# Altium schematic symbol library Microchip Power Management Switching Regulator.SchLib: 304 symbols (part 4 of 8)
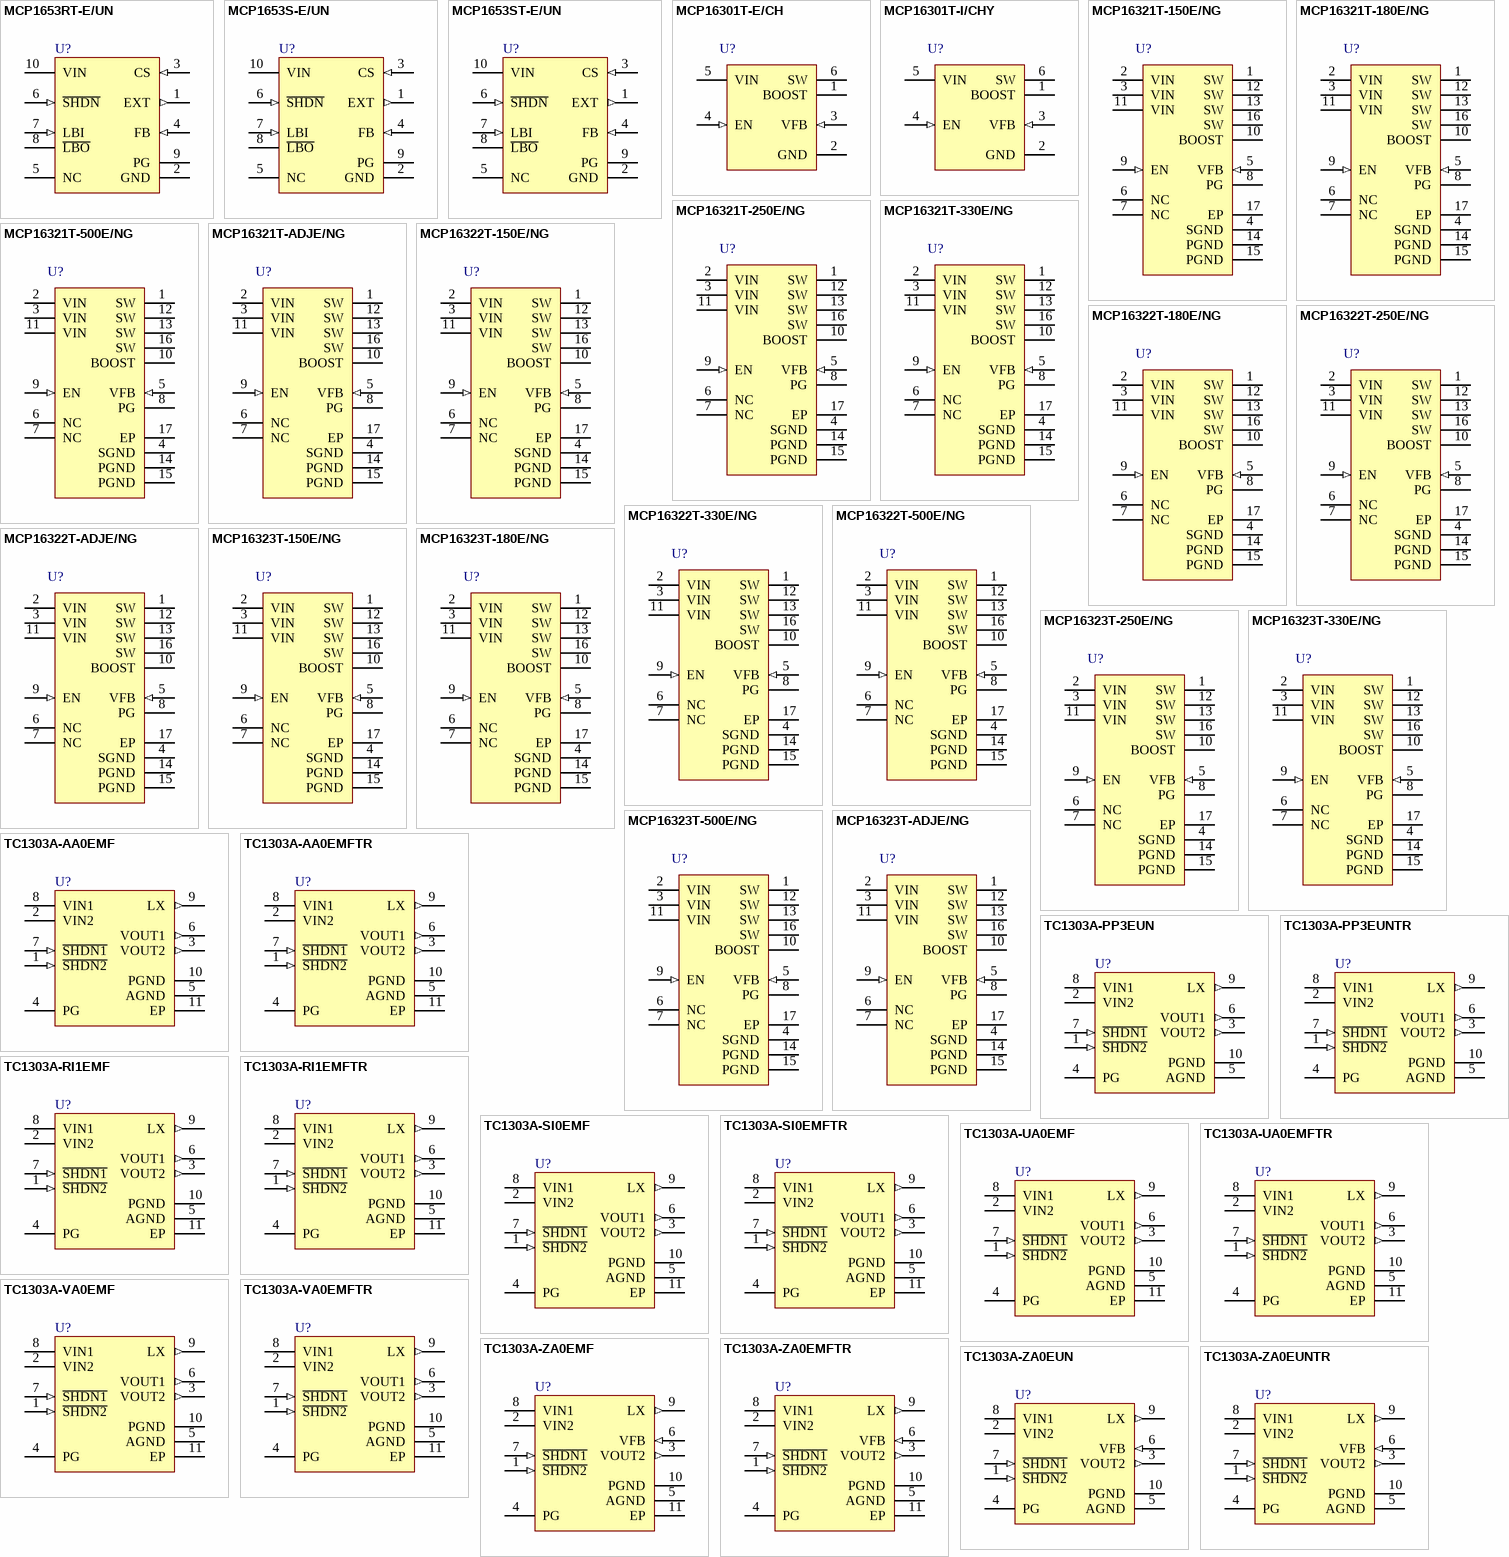
[diagram p10: symbols MCP1653RT-E/UN to TC1303A-ZA0EUNTR]

## MCP16323T-500E/NG
designator U?
High Efficiency Synchronous Buck Regulator with Power Good Indication, Input Voltage 6 to 18 V, Output Voltage 5.0 V, -40 to 125 degC, 16-pin VQFN (NG16), Tape and Reel; Manufacturer: Microchip; PartNumber: MCP16323T-500E/NG; DatasheetVersion: Rev. A; PackageVersion: C04-197A; PackageReference: VQFN-NG16; PackageDescription: 16-Lead Plastic Quad Flat, 3 x 3 mm Body, 0.5 mm Pitch; Supplier 1: Digi-Key; Supplier Part Number 1: MCP16323T-500E/NGTR-ND; Mounting Technology: Surface Mount; ComponentLink1Description: Manufacturer URL; ComponentLink1URL: http://www.microchip.com; ComponentLink2Description: Datasheet; ComponentLink2URL: http://ww1.microchip.com/downloads/en/DeviceDoc/22284A.pdf; ComponentLink3Description: Package Specification; ComponentLink3URL: http://www.microchip.com/stellent/groups/techpub_sg/documents/packagingspec/en012702.pdf; ComponentLink4Description: Product URL; ComponentLink4URL: http://www.microchip.com/MCP16323
footprint MCHP-VQFN-NG16_N (QFN, 16-Leads, Body 3x3mm, Pitch 0.5mm, Thermal Pad 1.675x1.675mm, IPC Medium Density)
footprint MCHP-VQFN-NG16_L (QFN, 16-Leads, Body 3x3mm, Pitch 0.5mm, Thermal Pad 1.675x1.675mm, IPC High Density)
footprint MCHP-VQFN-NG16_M (QFN, 16-Leads, Body 3x3mm, Pitch 0.5mm, Thermal Pad 1.675x1.675mm, IPC Low Density)
pins: 1 SW (power) "Output switch node, connects to the inductor and the bootstrap capacitor", 2 VIN (power) "Input supply voltage pin for power and internal biasing", 3 VIN (power) "Input supply voltage pin for power and internal biasing", 4 SGND (power) "Primary signal ground", 5 VFB (in) "Output voltage feedback pin. Connect VFB to VOUT for fixed version and output resistor divider for adjustable version.", 6 NC "No Connection", 7 NC "No Connection", 8 PG (oc) "Power Good open-drain output, pulled up to a maximum of 6V", 9 EN (in) "Enable input pin. Logic high enables the operation. Internally pulled up, pull EN pin low to disable regulator’s output. Maximum voltage on EN input is 6V.", 10 BOOST (power) "Boost voltage that drives the internal NMOS control switch. A bootstrap capacitor is connected between the BOOST and SW pins.", 11 VIN (power) "Input supply voltage pin for power and internal biasing", 12 SW (power) "Output switch node, connects to the inductor and the bootstrap capacitor", 13 SW (power) "Output switch node, connects to the inductor and the bootstrap capacitor", 14 PGND (power) "GND supply for the internal low-side NMOS/integrated diode", 15 PGND (power) "GND supply for the internal low-side NMOS/integrated diode", 16 SW (power) "Output switch node, connects to the inductor and the bootstrap capacitor", 17 EP (power) "Exposed Thermal Pad (EP); must be connected to GND"

## MCP16323T-ADJE/NG
designator U?
High Efficiency Synchronous Buck Regulator with Power Good Indication, Input Voltage 6 to 18 V, Output Voltage 0.9 to 5 V, -40 to 125 degC, 16-pin VQFN (NG16), Tape and Reel; Manufacturer: Microchip; PartNumber: MCP16323T-ADJE/NG; DatasheetVersion: Rev. A; PackageVersion: C04-197A; PackageReference: VQFN-NG16; PackageDescription: 16-Lead Plastic Quad Flat, 3 x 3 mm Body, 0.5 mm Pitch; Supplier 1: Digi-Key; Supplier Part Number 1: MCP16323T-ADJE/NGTR-ND; Mounting Technology: Surface Mount; ComponentLink1Description: Manufacturer URL; ComponentLink1URL: http://www.microchip.com; ComponentLink2Description: Datasheet; ComponentLink2URL: http://ww1.microchip.com/downloads/en/DeviceDoc/22284A.pdf; ComponentLink3Description: Package Specification; ComponentLink3URL: http://www.microchip.com/stellent/groups/techpub_sg/documents/packagingspec/en012702.pdf; ComponentLink4Description: Product URL; ComponentLink4URL: http://www.microchip.com/MCP16323
footprint MCHP-VQFN-NG16_N (QFN, 16-Leads, Body 3x3mm, Pitch 0.5mm, Thermal Pad 1.675x1.675mm, IPC Medium Density)
footprint MCHP-VQFN-NG16_L (QFN, 16-Leads, Body 3x3mm, Pitch 0.5mm, Thermal Pad 1.675x1.675mm, IPC High Density)
footprint MCHP-VQFN-NG16_M (QFN, 16-Leads, Body 3x3mm, Pitch 0.5mm, Thermal Pad 1.675x1.675mm, IPC Low Density)
pins: 1 SW (power) "Output switch node, connects to the inductor and the bootstrap capacitor", 2 VIN (power) "Input supply voltage pin for power and internal biasing", 3 VIN (power) "Input supply voltage pin for power and internal biasing", 4 SGND (power) "Primary signal ground", 5 VFB (in) "Output voltage feedback pin. Connect VFB to VOUT for fixed version and output resistor divider for adjustable version.", 6 NC "No Connection", 7 NC "No Connection", 8 PG (oc) "Power Good open-drain output, pulled up to a maximum of 6V", 9 EN (in) "Enable input pin. Logic high enables the operation. Internally pulled up, pull EN pin low to disable regulator’s output. Maximum voltage on EN input is 6V.", 10 BOOST (power) "Boost voltage that drives the internal NMOS control switch. A bootstrap capacitor is connected between the BOOST and SW pins.", 11 VIN (power) "Input supply voltage pin for power and internal biasing", 12 SW (power) "Output switch node, connects to the inductor and the bootstrap capacitor", 13 SW (power) "Output switch node, connects to the inductor and the bootstrap capacitor", 14 PGND (power) "GND supply for the internal low-side NMOS/integrated diode", 15 PGND (power) "GND supply for the internal low-side NMOS/integrated diode", 16 SW (power) "Output switch node, connects to the inductor and the bootstrap capacitor", 17 EP (power) "Exposed Thermal Pad (EP); must be connected to GND"

## TC1303A-AA0EMF
designator U?
500mA Synchronous Buck Regulator + 300mA LDO with Power-Good Output, 3.3V, 3.3V, 10-Pin DFN, Industrial Temperature; Manufacturer: Microchip; PartNumber: TC1303A-AA0EMF; DatasheetVersion: revB, Jul-2005; PackageVersion: revBB, Aug-2009; PackageReference: DFN-MF10; PackageDescription: 10-Lead Plastic Dual Flat, No Lead Package (MF) - 3x3x0.9mm Body [DFN]; Mounting Technology: Surface Mount; ComponentLink1Description: Manufacturer URL; ComponentLink1URL: http://www.microchip.com/; ComponentLink2Description: Datasheet; ComponentLink2URL: http://ww1.microchip.com/downloads/en/DeviceDoc/21949b.pdf; ComponentLink3Description: Package Specification; ComponentLink3URL: http://www.microchip.com/stellent/groups/techpub_sg/documents/packagingspec/en012702.pdf
footprint DFN-MF10 (SON, 10-Leads, Body 3x3mm, Pitch 0.5mm, Microchip Recommended)
pins: 1 ~{SHDN2} (in), 2 VIN2 (power), 3 VOUT2 (out), 4 PG (oc), 5 AGND (power), 6 VOUT1 (out), 7 ~{SHDN1} (in), 8 VIN1 (power), 9 LX (out), 10 PGND (power), 11 EP (power)

## TC1303A-AA0EMFTR
designator U?
500mA Synchronous Buck Regulator + 300mA LDO with Power-Good Output, 3.3V, 3.3V, 10-Pin DFN, Industrial Temperature, Tape and Reel; Manufacturer: Microchip; PartNumber: TC1303A-AA0EMFTR; DatasheetVersion: revB, Jul-2005; PackageVersion: revBB, Aug-2009; PackageReference: DFN-MF10; PackageDescription: 10-Lead Plastic Dual Flat, No Lead Package (MF) - 3x3x0.9mm Body [DFN]; Mounting Technology: Surface Mount; ComponentLink1Description: Manufacturer URL; ComponentLink1URL: http://www.microchip.com/; ComponentLink2Description: Datasheet; ComponentLink2URL: http://ww1.microchip.com/downloads/en/DeviceDoc/21949b.pdf; ComponentLink3Description: Package Specification; ComponentLink3URL: http://www.microchip.com/stellent/groups/techpub_sg/documents/packagingspec/en012702.pdf
footprint DFN-MF10 (SON, 10-Leads, Body 3x3mm, Pitch 0.5mm, Microchip Recommended)
pins: 1 ~{SHDN2} (in), 2 VIN2 (power), 3 VOUT2 (out), 4 PG (oc), 5 AGND (power), 6 VOUT1 (out), 7 ~{SHDN1} (in), 8 VIN1 (power), 9 LX (out), 10 PGND (power), 11 EP (power)

## TC1303A-PP3EUN
designator U?
500mA Synchronous Buck Regulator + 300mA LDO with Power-Good Output, 1.8V, 1.8V, 10-Pin MSOP, Industrial Temperature; Manufacturer: Microchip; PartNumber: TC1303A-PP3EUN; DatasheetVersion: revB, Jul-2005; PackageVersion: revBB, Aug-2009; PackageReference: MSOP-UN10; PackageDescription: 10-Lead Plastic Micro Small Outline Package (UN) [MSOP]; Supplier 1: Digi-Key; Supplier Part Number 1: TC1303A-PP3EUN-ND; Mounting Technology: Surface Mount; ComponentLink1Description: Manufacturer URL; ComponentLink1URL: http://www.microchip.com/; ComponentLink2Description: Datasheet; ComponentLink2URL: http://ww1.microchip.com/downloads/en/DeviceDoc/21949b.pdf; ComponentLink3Description: Package Specification; ComponentLink3URL: http://www.microchip.com/stellent/groups/techpub_sg/documents/packagingspec/en012702.pdf
footprint MSOP-UN10_N (TSSOP, 10-Leads, Body 3x3mm, Pitch 0.5mm, IPC Medium Density)
footprint MSOP-UN10_L (TSSOP, 10-Leads, Body 3x3mm, Pitch 0.5mm, IPC High Density)
footprint MSOP-UN10_M (TSSOP, 10-Leads, Body 3x3mm, Pitch 0.5mm, IPC Low Density)
pins: 1 ~{SHDN2} (in), 2 VIN2 (power), 3 VOUT2 (out), 4 PG (oc), 5 AGND (power), 6 VOUT1 (out), 7 ~{SHDN1} (in), 8 VIN1 (power), 9 LX (out), 10 PGND (power)

## TC1303A-PP3EUNTR
designator U?
500mA Synchronous Buck Regulator + 300mA LDO with Power-Good Output, 1.8V, 1.8V, 10-Pin MSOP, Industrial Temperature, Tape and Reel; Manufacturer: Microchip; PartNumber: TC1303A-PP3EUNTR; DatasheetVersion: revB, Jul-2005; PackageVersion: revBB, Aug-2009; PackageReference: MSOP-UN10; PackageDescription: 10-Lead Plastic Micro Small Outline Package (UN) [MSOP]; Supplier 1: Digi-Key; Supplier Part Number 1: TC1303A-PP3EUNTR-ND; Mounting Technology: Surface Mount; ComponentLink1Description: Manufacturer URL; ComponentLink1URL: http://www.microchip.com/; ComponentLink2Description: Datasheet; ComponentLink2URL: http://ww1.microchip.com/downloads/en/DeviceDoc/21949b.pdf; ComponentLink3Description: Package Specification; ComponentLink3URL: http://www.microchip.com/stellent/groups/techpub_sg/documents/packagingspec/en012702.pdf
footprint MSOP-UN10_N (TSSOP, 10-Leads, Body 3x3mm, Pitch 0.5mm, IPC Medium Density)
footprint MSOP-UN10_L (TSSOP, 10-Leads, Body 3x3mm, Pitch 0.5mm, IPC High Density)
footprint MSOP-UN10_M (TSSOP, 10-Leads, Body 3x3mm, Pitch 0.5mm, IPC Low Density)
pins: 1 ~{SHDN2} (in), 2 VIN2 (power), 3 VOUT2 (out), 4 PG (oc), 5 AGND (power), 6 VOUT1 (out), 7 ~{SHDN1} (in), 8 VIN1 (power), 9 LX (out), 10 PGND (power)

## TC1303A-RI1EMF
designator U?
500mA Synchronous Buck Regulator + 300mA LDO with Power-Good Output, 1.6V, 2.5V, 10-Pin DFN, Industrial Temperature; Manufacturer: Microchip; PartNumber: TC1303A-RI1EMF; DatasheetVersion: revB, Jul-2005; PackageVersion: revBB, Aug-2009; PackageReference: DFN-MF10; PackageDescription: 10-Lead Plastic Dual Flat, No Lead Package (MF) - 3x3x0.9mm Body [DFN]; Supplier 1: Digi-Key; Supplier Part Number 1: TC1303A-RI1EMF-ND; Mounting Technology: Surface Mount; ComponentLink1Description: Manufacturer URL; ComponentLink1URL: http://www.microchip.com/; ComponentLink2Description: Datasheet; ComponentLink2URL: http://ww1.microchip.com/downloads/en/DeviceDoc/21949b.pdf; ComponentLink3Description: Package Specification; ComponentLink3URL: http://www.microchip.com/stellent/groups/techpub_sg/documents/packagingspec/en012702.pdf
footprint DFN-MF10 (SON, 10-Leads, Body 3x3mm, Pitch 0.5mm, Microchip Recommended)
pins: 1 ~{SHDN2} (in), 2 VIN2 (power), 3 VOUT2 (out), 4 PG (oc), 5 AGND (power), 6 VOUT1 (out), 7 ~{SHDN1} (in), 8 VIN1 (power), 9 LX (out), 10 PGND (power), 11 EP (power)

## TC1303A-RI1EMFTR
designator U?
500mA Synchronous Buck Regulator + 300mA LDO with Power-Good Output, 1.6V, 2.5V, 10-Pin DFN, Industrial Temperature, Tape and Reel; Manufacturer: Microchip; PartNumber: TC1303A-RI1EMFTR; DatasheetVersion: revB, Jul-2005; PackageVersion: revBB, Aug-2009; PackageReference: DFN-MF10; PackageDescription: 10-Lead Plastic Dual Flat, No Lead Package (MF) - 3x3x0.9mm Body [DFN]; Supplier 1: Digi-Key; Supplier Part Number 1: TC1303A-RI1EMFTR-ND; Mounting Technology: Surface Mount; ComponentLink1Description: Manufacturer URL; ComponentLink1URL: http://www.microchip.com/; ComponentLink2Description: Datasheet; ComponentLink2URL: http://ww1.microchip.com/downloads/en/DeviceDoc/21949b.pdf; ComponentLink3Description: Package Specification; ComponentLink3URL: http://www.microchip.com/stellent/groups/techpub_sg/documents/packagingspec/en012702.pdf
footprint DFN-MF10 (SON, 10-Leads, Body 3x3mm, Pitch 0.5mm, Microchip Recommended)
pins: 1 ~{SHDN2} (in), 2 VIN2 (power), 3 VOUT2 (out), 4 PG (oc), 5 AGND (power), 6 VOUT1 (out), 7 ~{SHDN1} (in), 8 VIN1 (power), 9 LX (out), 10 PGND (power), 11 EP (power)

## TC1303A-SI0EMF
designator U?
500mA Synchronous Buck Regulator + 300mA LDO with Power-Good Output, 1.5V, 2.5V, 10-Pin DFN, Industrial Temperature; Manufacturer: Microchip; PartNumber: TC1303A-SI0EMF; DatasheetVersion: revB, Jul-2005; PackageVersion: revBB, Aug-2009; PackageReference: DFN-MF10; PackageDescription: 10-Lead Plastic Dual Flat, No Lead Package (MF) - 3x3x0.9mm Body [DFN]; Supplier 1: Digi-Key; Supplier Part Number 1: TC1303A-SI0EMF-ND; Mounting Technology: Surface Mount; ComponentLink1Description: Manufacturer URL; ComponentLink1URL: http://www.microchip.com/; ComponentLink2Description: Datasheet; ComponentLink2URL: http://ww1.microchip.com/downloads/en/DeviceDoc/21949b.pdf; ComponentLink3Description: Package Specification; ComponentLink3URL: http://www.microchip.com/stellent/groups/techpub_sg/documents/packagingspec/en012702.pdf
footprint DFN-MF10 (SON, 10-Leads, Body 3x3mm, Pitch 0.5mm, Microchip Recommended)
pins: 1 ~{SHDN2} (in), 2 VIN2 (power), 3 VOUT2 (out), 4 PG (oc), 5 AGND (power), 6 VOUT1 (out), 7 ~{SHDN1} (in), 8 VIN1 (power), 9 LX (out), 10 PGND (power), 11 EP (power)

## TC1303A-SI0EMFTR
designator U?
500mA Synchronous Buck Regulator + 300mA LDO with Power-Good Output, 1.5V, 2.5V, 10-Pin DFN, Industrial Temperature, Tape and Reel; Manufacturer: Microchip; PartNumber: TC1303A-SI0EMFTR; DatasheetVersion: revB, Jul-2005; PackageVersion: revBB, Aug-2009; PackageReference: DFN-MF10; PackageDescription: 10-Lead Plastic Dual Flat, No Lead Package (MF) - 3x3x0.9mm Body [DFN]; Supplier 1: Digi-Key; Supplier Part Number 1: TC1303A-SI0EMFTR-ND; Mounting Technology: Surface Mount; ComponentLink1Description: Manufacturer URL; ComponentLink1URL: http://www.microchip.com/; ComponentLink2Description: Datasheet; ComponentLink2URL: http://ww1.microchip.com/downloads/en/DeviceDoc/21949b.pdf; ComponentLink3Description: Package Specification; ComponentLink3URL: http://www.microchip.com/stellent/groups/techpub_sg/documents/packagingspec/en012702.pdf
footprint DFN-MF10 (SON, 10-Leads, Body 3x3mm, Pitch 0.5mm, Microchip Recommended)
pins: 1 ~{SHDN2} (in), 2 VIN2 (power), 3 VOUT2 (out), 4 PG (oc), 5 AGND (power), 6 VOUT1 (out), 7 ~{SHDN1} (in), 8 VIN1 (power), 9 LX (out), 10 PGND (power), 11 EP (power)

## TC1303A-UA0EMF
designator U?
500mA Synchronous Buck Regulator + 300mA LDO with Power-Good Output, 1.3V, 3.3V, 10-Pin DFN, Industrial Temperature; Manufacturer: Microchip; PartNumber: TC1303A-UA0EMF; DatasheetVersion: revB, Jul-2005; PackageVersion: revBB, Aug-2009; PackageReference: DFN-MF10; PackageDescription: 10-Lead Plastic Dual Flat, No Lead Package (MF) - 3x3x0.9mm Body [DFN]; Supplier 1: Digi-Key; Supplier Part Number 1: TC1303A-UA0EMF-ND; Mounting Technology: Surface Mount; ComponentLink1Description: Manufacturer URL; ComponentLink1URL: http://www.microchip.com/; ComponentLink2Description: Datasheet; ComponentLink2URL: http://ww1.microchip.com/downloads/en/DeviceDoc/21949b.pdf; ComponentLink3Description: Package Specification; ComponentLink3URL: http://www.microchip.com/stellent/groups/techpub_sg/documents/packagingspec/en012702.pdf
footprint DFN-MF10 (SON, 10-Leads, Body 3x3mm, Pitch 0.5mm, Microchip Recommended)
pins: 1 ~{SHDN2} (in), 2 VIN2 (power), 3 VOUT2 (out), 4 PG (oc), 5 AGND (power), 6 VOUT1 (out), 7 ~{SHDN1} (in), 8 VIN1 (power), 9 LX (out), 10 PGND (power), 11 EP (power)

## TC1303A-UA0EMFTR
designator U?
500mA Synchronous Buck Regulator + 300mA LDO with Power-Good Output, 1.3V, 3.3V, 10-Pin DFN, Industrial Temperature, Tape and Reel; Manufacturer: Microchip; PartNumber: TC1303A-UA0EMFTR; DatasheetVersion: revB, Jul-2005; PackageVersion: revBB, Aug-2009; PackageReference: DFN-MF10; PackageDescription: 10-Lead Plastic Dual Flat, No Lead Package (MF) - 3x3x0.9mm Body [DFN]; Supplier 1: Digi-Key; Supplier Part Number 1: TC1303A-UA0EMFTR-ND; Mounting Technology: Surface Mount; ComponentLink1Description: Manufacturer URL; ComponentLink1URL: http://www.microchip.com/; ComponentLink2Description: Datasheet; ComponentLink2URL: http://ww1.microchip.com/downloads/en/DeviceDoc/21949b.pdf; ComponentLink3Description: Package Specification; ComponentLink3URL: http://www.microchip.com/stellent/groups/techpub_sg/documents/packagingspec/en012702.pdf
footprint DFN-MF10 (SON, 10-Leads, Body 3x3mm, Pitch 0.5mm, Microchip Recommended)
pins: 1 ~{SHDN2} (in), 2 VIN2 (power), 3 VOUT2 (out), 4 PG (oc), 5 AGND (power), 6 VOUT1 (out), 7 ~{SHDN1} (in), 8 VIN1 (power), 9 LX (out), 10 PGND (power), 11 EP (power)

## TC1303A-VA0EMF
designator U?
500mA Synchronous Buck Regulator + 300mA LDO with Power-Good Output, 1.2V, 3.3V, 10-Pin DFN, Industrial Temperature; Manufacturer: Microchip; PartNumber: TC1303A-VA0EMF; DatasheetVersion: revB, Jul-2005; PackageVersion: revBB, Aug-2009; PackageReference: DFN-MF10; PackageDescription: 10-Lead Plastic Dual Flat, No Lead Package (MF) - 3x3x0.9mm Body [DFN]; Mounting Technology: Surface Mount; ComponentLink1Description: Manufacturer URL; ComponentLink1URL: http://www.microchip.com/; ComponentLink2Description: Datasheet; ComponentLink2URL: http://ww1.microchip.com/downloads/en/DeviceDoc/21949b.pdf; ComponentLink3Description: Package Specification; ComponentLink3URL: http://www.microchip.com/stellent/groups/techpub_sg/documents/packagingspec/en012702.pdf
footprint DFN-MF10 (SON, 10-Leads, Body 3x3mm, Pitch 0.5mm, Microchip Recommended)
pins: 1 ~{SHDN2} (in), 2 VIN2 (power), 3 VOUT2 (out), 4 PG (oc), 5 AGND (power), 6 VOUT1 (out), 7 ~{SHDN1} (in), 8 VIN1 (power), 9 LX (out), 10 PGND (power), 11 EP (power)

## TC1303A-VA0EMFTR
designator U?
500mA Synchronous Buck Regulator + 300mA LDO with Power-Good Output, 1.2V, 3.3V, 10-Pin DFN, Industrial Temperature, Tape and Reel; Manufacturer: Microchip; PartNumber: TC1303A-VA0EMFTR; DatasheetVersion: revB, Jul-2005; PackageVersion: revBB, Aug-2009; PackageReference: DFN-MF10; PackageDescription: 10-Lead Plastic Dual Flat, No Lead Package (MF) - 3x3x0.9mm Body [DFN]; Mounting Technology: Surface Mount; ComponentLink1Description: Manufacturer URL; ComponentLink1URL: http://www.microchip.com/; ComponentLink2Description: Datasheet; ComponentLink2URL: http://ww1.microchip.com/downloads/en/DeviceDoc/21949b.pdf; ComponentLink3Description: Package Specification; ComponentLink3URL: http://www.microchip.com/stellent/groups/techpub_sg/documents/packagingspec/en012702.pdf
footprint DFN-MF10 (SON, 10-Leads, Body 3x3mm, Pitch 0.5mm, Microchip Recommended)
pins: 1 ~{SHDN2} (in), 2 VIN2 (power), 3 VOUT2 (out), 4 PG (oc), 5 AGND (power), 6 VOUT1 (out), 7 ~{SHDN1} (in), 8 VIN1 (power), 9 LX (out), 10 PGND (power), 11 EP (power)

## TC1303A-ZA0EMF
designator U?
500mA Synchronous Buck Regulator + 300mA LDO with Power-Good Output, Adjustable, 3.3V, 10-Pin DFN, Industrial Temperature; Manufacturer: Microchip; PartNumber: TC1303A-ZA0EMF; DatasheetVersion: revB, Jul-2005; PackageVersion: revBB, Aug-2009; PackageReference: DFN-MF10; PackageDescription: 10-Lead Plastic Dual Flat, No Lead Package (MF) - 3x3x0.9mm Body [DFN]; Supplier 1: Digi-Key; Supplier Part Number 1: TC1303A-ZA0EMF-ND; Mounting Technology: Surface Mount; ComponentLink1Description: Manufacturer URL; ComponentLink1URL: http://www.microchip.com/; ComponentLink2Description: Datasheet; ComponentLink2URL: http://ww1.microchip.com/downloads/en/DeviceDoc/21949b.pdf; ComponentLink3Description: Package Specification; ComponentLink3URL: http://www.microchip.com/stellent/groups/techpub_sg/documents/packagingspec/en012702.pdf
footprint DFN-MF10 (SON, 10-Leads, Body 3x3mm, Pitch 0.5mm, Microchip Recommended)
pins: 1 ~{SHDN2} (in), 2 VIN2 (power), 3 VOUT2 (out), 4 PG (oc), 5 AGND (power), 6 VFB (in), 7 ~{SHDN1} (in), 8 VIN1 (power), 9 LX (out), 10 PGND (power), 11 EP (power)

## TC1303A-ZA0EMFTR
designator U?
500mA Synchronous Buck Regulator + 300mA LDO with Power-Good Output, Adjustable, 3.3V, 10-Pin DFN, Industrial Temperature, Tape and Reel; Manufacturer: Microchip; PartNumber: TC1303A-ZA0EMFTR; DatasheetVersion: revB, Jul-2005; PackageVersion: revBB, Aug-2009; PackageReference: DFN-MF10; PackageDescription: 10-Lead Plastic Dual Flat, No Lead Package (MF) - 3x3x0.9mm Body [DFN]; Supplier 1: Digi-Key; Supplier Part Number 1: TC1303A-ZA0EMFTR-ND; Mounting Technology: Surface Mount; ComponentLink1Description: Manufacturer URL; ComponentLink1URL: http://www.microchip.com/; ComponentLink2Description: Datasheet; ComponentLink2URL: http://ww1.microchip.com/downloads/en/DeviceDoc/21949b.pdf; ComponentLink3Description: Package Specification; ComponentLink3URL: http://www.microchip.com/stellent/groups/techpub_sg/documents/packagingspec/en012702.pdf
footprint DFN-MF10 (SON, 10-Leads, Body 3x3mm, Pitch 0.5mm, Microchip Recommended)
pins: 1 ~{SHDN2} (in), 2 VIN2 (power), 3 VOUT2 (out), 4 PG (oc), 5 AGND (power), 6 VFB (in), 7 ~{SHDN1} (in), 8 VIN1 (power), 9 LX (out), 10 PGND (power), 11 EP (power)

## TC1303A-ZA0EUN
designator U?
500mA Synchronous Buck Regulator + 300mA LDO with Power-Good Output, Adjustable, 3.3V, 10-Pin MSOP, Industrial Temperature; Manufacturer: Microchip; PartNumber: TC1303A-ZA0EUN; DatasheetVersion: revB, Jul-2005; PackageVersion: revBB, Aug-2009; PackageReference: MSOP-UN10; PackageDescription: 10-Lead Plastic Micro Small Outline Package (UN) [MSOP]; Supplier 1: Digi-Key; Supplier Part Number 1: TC1303A-ZA0EUN-ND; Mounting Technology: Surface Mount; ComponentLink1Description: Manufacturer URL; ComponentLink1URL: http://www.microchip.com/; ComponentLink2Description: Datasheet; ComponentLink2URL: http://ww1.microchip.com/downloads/en/DeviceDoc/21949b.pdf; ComponentLink3Description: Package Specification; ComponentLink3URL: http://www.microchip.com/stellent/groups/techpub_sg/documents/packagingspec/en012702.pdf
footprint MSOP-UN10_N (TSSOP, 10-Leads, Body 3x3mm, Pitch 0.5mm, IPC Medium Density)
footprint MSOP-UN10_L (TSSOP, 10-Leads, Body 3x3mm, Pitch 0.5mm, IPC High Density)
footprint MSOP-UN10_M (TSSOP, 10-Leads, Body 3x3mm, Pitch 0.5mm, IPC Low Density)
pins: 1 ~{SHDN2} (in), 2 VIN2 (power), 3 VOUT2 (out), 4 PG (oc), 5 AGND (power), 6 VFB (in), 7 ~{SHDN1} (in), 8 VIN1 (power), 9 LX (out), 10 PGND (power)

## TC1303A-ZA0EUNTR
designator U?
500mA Synchronous Buck Regulator + 300mA LDO with Power-Good Output, Adjustable, 3.3V, 10-Pin MSOP, Industrial Temperature, Tape and Reel; Manufacturer: Microchip; PartNumber: TC1303A-ZA0EUNTR; DatasheetVersion: revB, Jul-2005; PackageVersion: revBB, Aug-2009; PackageReference: MSOP-UN10; PackageDescription: 10-Lead Plastic Micro Small Outline Package (UN) [MSOP]; Supplier 1: Digi-Key; Supplier Part Number 1: TC1303A-ZA0EUNTR-ND; Mounting Technology: Surface Mount; ComponentLink1Description: Manufacturer URL; ComponentLink1URL: http://www.microchip.com/; ComponentLink2Description: Datasheet; ComponentLink2URL: http://ww1.microchip.com/downloads/en/DeviceDoc/21949b.pdf; ComponentLink3Description: Package Specification; ComponentLink3URL: http://www.microchip.com/stellent/groups/techpub_sg/documents/packagingspec/en012702.pdf
footprint MSOP-UN10_N (TSSOP, 10-Leads, Body 3x3mm, Pitch 0.5mm, IPC Medium Density)
footprint MSOP-UN10_L (TSSOP, 10-Leads, Body 3x3mm, Pitch 0.5mm, IPC High Density)
footprint MSOP-UN10_M (TSSOP, 10-Leads, Body 3x3mm, Pitch 0.5mm, IPC Low Density)
pins: 1 ~{SHDN2} (in), 2 VIN2 (power), 3 VOUT2 (out), 4 PG (oc), 5 AGND (power), 6 VFB (in), 7 ~{SHDN1} (in), 8 VIN1 (power), 9 LX (out), 10 PGND (power)

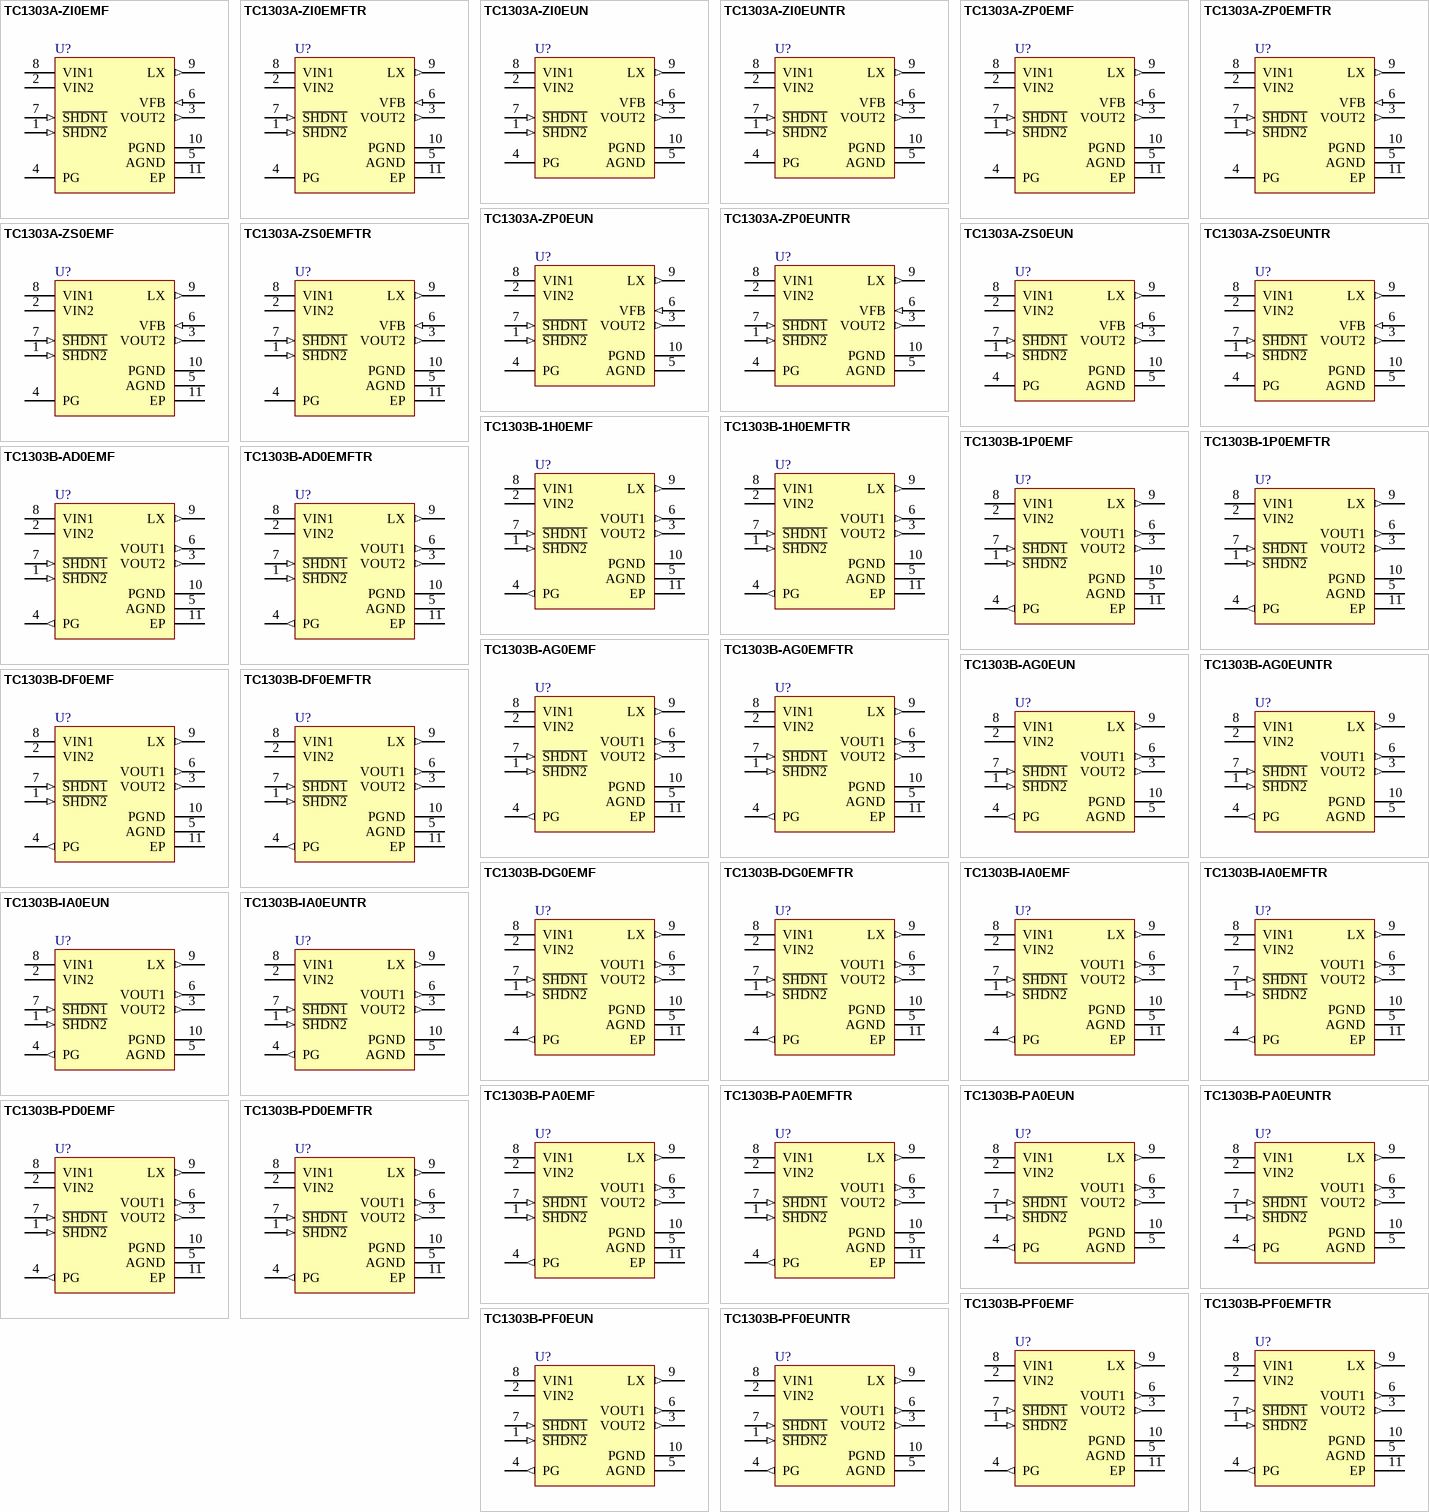
[diagram p3: symbols TC1303A-ZI0EMF to TC1303B-PF0EUNTR]

## TC1303A-ZI0EMF
designator U?
500mA Synchronous Buck Regulator + 300mA LDO with Power-Good Output, Adjustable, 2.5V, 10-Pin DFN, Industrial Temperature; Manufacturer: Microchip; PartNumber: TC1303A-ZI0EMF; DatasheetVersion: revB, Jul-2005; PackageVersion: revBB, Aug-2009; PackageReference: DFN-MF10; PackageDescription: 10-Lead Plastic Dual Flat, No Lead Package (MF) - 3x3x0.9mm Body [DFN]; Supplier 1: Digi-Key; Supplier Part Number 1: TC1303A-ZI0EMF-ND; Mounting Technology: Surface Mount; ComponentLink1Description: Manufacturer URL; ComponentLink1URL: http://www.microchip.com/; ComponentLink2Description: Datasheet; ComponentLink2URL: http://ww1.microchip.com/downloads/en/DeviceDoc/21949b.pdf; ComponentLink3Description: Package Specification; ComponentLink3URL: http://www.microchip.com/stellent/groups/techpub_sg/documents/packagingspec/en012702.pdf
footprint DFN-MF10 (SON, 10-Leads, Body 3x3mm, Pitch 0.5mm, Microchip Recommended)
pins: 1 ~{SHDN2} (in), 2 VIN2 (power), 3 VOUT2 (out), 4 PG (oc), 5 AGND (power), 6 VFB (in), 7 ~{SHDN1} (in), 8 VIN1 (power), 9 LX (out), 10 PGND (power), 11 EP (power)

## TC1303A-ZI0EMFTR
designator U?
500mA Synchronous Buck Regulator + 300mA LDO with Power-Good Output, Adjustable, 2.5V, 10-Pin DFN, Industrial Temperature, Tape and Reel; Manufacturer: Microchip; PartNumber: TC1303A-ZI0EMFTR; DatasheetVersion: revB, Jul-2005; PackageVersion: revBB, Aug-2009; PackageReference: DFN-MF10; PackageDescription: 10-Lead Plastic Dual Flat, No Lead Package (MF) - 3x3x0.9mm Body [DFN]; Supplier 1: Digi-Key; Supplier Part Number 1: TC1303A-ZI0EMFTR-ND; Mounting Technology: Surface Mount; ComponentLink1Description: Manufacturer URL; ComponentLink1URL: http://www.microchip.com/; ComponentLink2Description: Datasheet; ComponentLink2URL: http://ww1.microchip.com/downloads/en/DeviceDoc/21949b.pdf; ComponentLink3Description: Package Specification; ComponentLink3URL: http://www.microchip.com/stellent/groups/techpub_sg/documents/packagingspec/en012702.pdf
footprint DFN-MF10 (SON, 10-Leads, Body 3x3mm, Pitch 0.5mm, Microchip Recommended)
pins: 1 ~{SHDN2} (in), 2 VIN2 (power), 3 VOUT2 (out), 4 PG (oc), 5 AGND (power), 6 VFB (in), 7 ~{SHDN1} (in), 8 VIN1 (power), 9 LX (out), 10 PGND (power), 11 EP (power)

## TC1303A-ZI0EUN
designator U?
500mA Synchronous Buck Regulator + 300mA LDO with Power-Good Output, Adjustable, 2.5V, 10-Pin MSOP, Industrial Temperature; Manufacturer: Microchip; PartNumber: TC1303A-ZI0EUN; DatasheetVersion: revB, Jul-2005; PackageVersion: revBB, Aug-2009; PackageReference: MSOP-UN10; PackageDescription: 10-Lead Plastic Micro Small Outline Package (UN) [MSOP]; Supplier 1: Digi-Key; Supplier Part Number 1: TC1303A-ZI0EUN-ND; Mounting Technology: Surface Mount; ComponentLink1Description: Manufacturer URL; ComponentLink1URL: http://www.microchip.com/; ComponentLink2Description: Datasheet; ComponentLink2URL: http://ww1.microchip.com/downloads/en/DeviceDoc/21949b.pdf; ComponentLink3Description: Package Specification; ComponentLink3URL: http://www.microchip.com/stellent/groups/techpub_sg/documents/packagingspec/en012702.pdf
footprint MSOP-UN10_N (TSSOP, 10-Leads, Body 3x3mm, Pitch 0.5mm, IPC Medium Density)
footprint MSOP-UN10_L (TSSOP, 10-Leads, Body 3x3mm, Pitch 0.5mm, IPC High Density)
footprint MSOP-UN10_M (TSSOP, 10-Leads, Body 3x3mm, Pitch 0.5mm, IPC Low Density)
pins: 1 ~{SHDN2} (in), 2 VIN2 (power), 3 VOUT2 (out), 4 PG (oc), 5 AGND (power), 6 VFB (in), 7 ~{SHDN1} (in), 8 VIN1 (power), 9 LX (out), 10 PGND (power)

## TC1303A-ZI0EUNTR
designator U?
500mA Synchronous Buck Regulator + 300mA LDO with Power-Good Output, Adjustable, 2.5V, 10-Pin MSOP, Industrial Temperature, Tape and Reel; Manufacturer: Microchip; PartNumber: TC1303A-ZI0EUNTR; DatasheetVersion: revB, Jul-2005; PackageVersion: revBB, Aug-2009; PackageReference: MSOP-UN10; PackageDescription: 10-Lead Plastic Micro Small Outline Package (UN) [MSOP]; Supplier 1: Digi-Key; Supplier Part Number 1: TC1303A-ZI0EUNTR-ND; Mounting Technology: Surface Mount; ComponentLink1Description: Manufacturer URL; ComponentLink1URL: http://www.microchip.com/; ComponentLink2Description: Datasheet; ComponentLink2URL: http://ww1.microchip.com/downloads/en/DeviceDoc/21949b.pdf; ComponentLink3Description: Package Specification; ComponentLink3URL: http://www.microchip.com/stellent/groups/techpub_sg/documents/packagingspec/en012702.pdf
footprint MSOP-UN10_N (TSSOP, 10-Leads, Body 3x3mm, Pitch 0.5mm, IPC Medium Density)
footprint MSOP-UN10_L (TSSOP, 10-Leads, Body 3x3mm, Pitch 0.5mm, IPC High Density)
footprint MSOP-UN10_M (TSSOP, 10-Leads, Body 3x3mm, Pitch 0.5mm, IPC Low Density)
pins: 1 ~{SHDN2} (in), 2 VIN2 (power), 3 VOUT2 (out), 4 PG (oc), 5 AGND (power), 6 VFB (in), 7 ~{SHDN1} (in), 8 VIN1 (power), 9 LX (out), 10 PGND (power)

## TC1303A-ZP0EMF
designator U?
500mA Synchronous Buck Regulator + 300mA LDO with Power-Good Output, Adjustable, 1.8V, 10-Pin DFN, Industrial Temperature; Manufacturer: Microchip; PartNumber: TC1303A-ZP0EMF; DatasheetVersion: revB, Jul-2005; PackageVersion: revBB, Aug-2009; PackageReference: DFN-MF10; PackageDescription: 10-Lead Plastic Dual Flat, No Lead Package (MF) - 3x3x0.9mm Body [DFN]; Supplier 1: Digi-Key; Supplier Part Number 1: TC1303A-ZP0EMF-ND; Mounting Technology: Surface Mount; ComponentLink1Description: Manufacturer URL; ComponentLink1URL: http://www.microchip.com/; ComponentLink2Description: Datasheet; ComponentLink2URL: http://ww1.microchip.com/downloads/en/DeviceDoc/21949b.pdf; ComponentLink3Description: Package Specification; ComponentLink3URL: http://www.microchip.com/stellent/groups/techpub_sg/documents/packagingspec/en012702.pdf
footprint DFN-MF10 (SON, 10-Leads, Body 3x3mm, Pitch 0.5mm, Microchip Recommended)
pins: 1 ~{SHDN2} (in), 2 VIN2 (power), 3 VOUT2 (out), 4 PG (oc), 5 AGND (power), 6 VFB (in), 7 ~{SHDN1} (in), 8 VIN1 (power), 9 LX (out), 10 PGND (power), 11 EP (power)

## TC1303A-ZP0EMFTR
designator U?
500mA Synchronous Buck Regulator + 300mA LDO with Power-Good Output, Adjustable, 1.8V, 10-Pin DFN, Industrial Temperature, Tape and Reel; Manufacturer: Microchip; PartNumber: TC1303A-ZP0EMFTR; DatasheetVersion: revB, Jul-2005; PackageVersion: revBB, Aug-2009; PackageReference: DFN-MF10; PackageDescription: 10-Lead Plastic Dual Flat, No Lead Package (MF) - 3x3x0.9mm Body [DFN]; Supplier 1: Digi-Key; Supplier Part Number 1: TC1303A-ZP0EMFTR-ND; Mounting Technology: Surface Mount; ComponentLink1Description: Manufacturer URL; ComponentLink1URL: http://www.microchip.com/; ComponentLink2Description: Datasheet; ComponentLink2URL: http://ww1.microchip.com/downloads/en/DeviceDoc/21949b.pdf; ComponentLink3Description: Package Specification; ComponentLink3URL: http://www.microchip.com/stellent/groups/techpub_sg/documents/packagingspec/en012702.pdf
footprint DFN-MF10 (SON, 10-Leads, Body 3x3mm, Pitch 0.5mm, Microchip Recommended)
pins: 1 ~{SHDN2} (in), 2 VIN2 (power), 3 VOUT2 (out), 4 PG (oc), 5 AGND (power), 6 VFB (in), 7 ~{SHDN1} (in), 8 VIN1 (power), 9 LX (out), 10 PGND (power), 11 EP (power)

## TC1303A-ZP0EUN
designator U?
500mA Synchronous Buck Regulator + 300mA LDO with Power-Good Output, Adjustable, 1.8V, 10-Pin MSOP, Industrial Temperature; Manufacturer: Microchip; PartNumber: TC1303A-ZP0EUN; DatasheetVersion: revB, Jul-2005; PackageVersion: revBB, Aug-2009; PackageReference: MSOP-UN10; PackageDescription: 10-Lead Plastic Micro Small Outline Package (UN) [MSOP]; Supplier 1: Digi-Key; Supplier Part Number 1: TC1303A-ZP0EUN-ND; Mounting Technology: Surface Mount; ComponentLink1Description: Manufacturer URL; ComponentLink1URL: http://www.microchip.com/; ComponentLink2Description: Datasheet; ComponentLink2URL: http://ww1.microchip.com/downloads/en/DeviceDoc/21949b.pdf; ComponentLink3Description: Package Specification; ComponentLink3URL: http://www.microchip.com/stellent/groups/techpub_sg/documents/packagingspec/en012702.pdf
footprint MSOP-UN10_N (TSSOP, 10-Leads, Body 3x3mm, Pitch 0.5mm, IPC Medium Density)
footprint MSOP-UN10_L (TSSOP, 10-Leads, Body 3x3mm, Pitch 0.5mm, IPC High Density)
footprint MSOP-UN10_M (TSSOP, 10-Leads, Body 3x3mm, Pitch 0.5mm, IPC Low Density)
pins: 1 ~{SHDN2} (in), 2 VIN2 (power), 3 VOUT2 (out), 4 PG (oc), 5 AGND (power), 6 VFB (in), 7 ~{SHDN1} (in), 8 VIN1 (power), 9 LX (out), 10 PGND (power)

## TC1303A-ZP0EUNTR
designator U?
500mA Synchronous Buck Regulator + 300mA LDO with Power-Good Output, Adjustable, 1.8V, 10-Pin MSOP, Industrial Temperature, Tape and Reel; Manufacturer: Microchip; PartNumber: TC1303A-ZP0EUNTR; DatasheetVersion: revB, Jul-2005; PackageVersion: revBB, Aug-2009; PackageReference: MSOP-UN10; PackageDescription: 10-Lead Plastic Micro Small Outline Package (UN) [MSOP]; Supplier 1: Digi-Key; Supplier Part Number 1: TC1303A-ZP0EUNTR-ND; Mounting Technology: Surface Mount; ComponentLink1Description: Manufacturer URL; ComponentLink1URL: http://www.microchip.com/; ComponentLink2Description: Datasheet; ComponentLink2URL: http://ww1.microchip.com/downloads/en/DeviceDoc/21949b.pdf; ComponentLink3Description: Package Specification; ComponentLink3URL: http://www.microchip.com/stellent/groups/techpub_sg/documents/packagingspec/en012702.pdf
footprint MSOP-UN10_N (TSSOP, 10-Leads, Body 3x3mm, Pitch 0.5mm, IPC Medium Density)
footprint MSOP-UN10_L (TSSOP, 10-Leads, Body 3x3mm, Pitch 0.5mm, IPC High Density)
footprint MSOP-UN10_M (TSSOP, 10-Leads, Body 3x3mm, Pitch 0.5mm, IPC Low Density)
pins: 1 ~{SHDN2} (in), 2 VIN2 (power), 3 VOUT2 (out), 4 PG (oc), 5 AGND (power), 6 VFB (in), 7 ~{SHDN1} (in), 8 VIN1 (power), 9 LX (out), 10 PGND (power)

## TC1303A-ZS0EMF
designator U?
500mA Synchronous Buck Regulator + 300mA LDO with Power-Good Output, Adjustable, 1.5V, 10-Pin DFN, Industrial Temperature; Manufacturer: Microchip; PartNumber: TC1303A-ZS0EMF; DatasheetVersion: revB, Jul-2005; PackageVersion: revBB, Aug-2009; PackageReference: DFN-MF10; PackageDescription: 10-Lead Plastic Dual Flat, No Lead Package (MF) - 3x3x0.9mm Body [DFN]; Supplier 1: Digi-Key; Supplier Part Number 1: TC1303A-ZS0EMF-ND; Mounting Technology: Surface Mount; ComponentLink1Description: Manufacturer URL; ComponentLink1URL: http://www.microchip.com/; ComponentLink2Description: Datasheet; ComponentLink2URL: http://ww1.microchip.com/downloads/en/DeviceDoc/21949b.pdf; ComponentLink3Description: Package Specification; ComponentLink3URL: http://www.microchip.com/stellent/groups/techpub_sg/documents/packagingspec/en012702.pdf
footprint DFN-MF10 (SON, 10-Leads, Body 3x3mm, Pitch 0.5mm, Microchip Recommended)
pins: 1 ~{SHDN2} (in), 2 VIN2 (power), 3 VOUT2 (out), 4 PG (oc), 5 AGND (power), 6 VFB (in), 7 ~{SHDN1} (in), 8 VIN1 (power), 9 LX (out), 10 PGND (power), 11 EP (power)

## TC1303A-ZS0EMFTR
designator U?
500mA Synchronous Buck Regulator + 300mA LDO with Power-Good Output, Adjustable, 1.5V, 10-Pin DFN, Industrial Temperature, Tape and Reel; Manufacturer: Microchip; PartNumber: TC1303A-ZS0EMFTR; DatasheetVersion: revB, Jul-2005; PackageVersion: revBB, Aug-2009; PackageReference: DFN-MF10; PackageDescription: 10-Lead Plastic Dual Flat, No Lead Package (MF) - 3x3x0.9mm Body [DFN]; Supplier 1: Digi-Key; Supplier Part Number 1: TC1303A-ZS0EMFTR-ND; Mounting Technology: Surface Mount; ComponentLink1Description: Manufacturer URL; ComponentLink1URL: http://www.microchip.com/; ComponentLink2Description: Datasheet; ComponentLink2URL: http://ww1.microchip.com/downloads/en/DeviceDoc/21949b.pdf; ComponentLink3Description: Package Specification; ComponentLink3URL: http://www.microchip.com/stellent/groups/techpub_sg/documents/packagingspec/en012702.pdf
footprint DFN-MF10 (SON, 10-Leads, Body 3x3mm, Pitch 0.5mm, Microchip Recommended)
pins: 1 ~{SHDN2} (in), 2 VIN2 (power), 3 VOUT2 (out), 4 PG (oc), 5 AGND (power), 6 VFB (in), 7 ~{SHDN1} (in), 8 VIN1 (power), 9 LX (out), 10 PGND (power), 11 EP (power)

## TC1303A-ZS0EUN
designator U?
500mA Synchronous Buck Regulator + 300mA LDO with Power-Good Output, Adjustable, 1.5V, 10-Pin MSOP, Industrial Temperature; Manufacturer: Microchip; PartNumber: TC1303A-ZS0EUN; DatasheetVersion: revB, Jul-2005; PackageVersion: revBB, Aug-2009; PackageReference: MSOP-UN10; PackageDescription: 10-Lead Plastic Micro Small Outline Package (UN) [MSOP]; Supplier 1: Digi-Key; Supplier Part Number 1: TC1303A-ZS0EUN-ND; Mounting Technology: Surface Mount; ComponentLink1Description: Manufacturer URL; ComponentLink1URL: http://www.microchip.com/; ComponentLink2Description: Datasheet; ComponentLink2URL: http://ww1.microchip.com/downloads/en/DeviceDoc/21949b.pdf; ComponentLink3Description: Package Specification; ComponentLink3URL: http://www.microchip.com/stellent/groups/techpub_sg/documents/packagingspec/en012702.pdf
footprint MSOP-UN10_N (TSSOP, 10-Leads, Body 3x3mm, Pitch 0.5mm, IPC Medium Density)
footprint MSOP-UN10_L (TSSOP, 10-Leads, Body 3x3mm, Pitch 0.5mm, IPC High Density)
footprint MSOP-UN10_M (TSSOP, 10-Leads, Body 3x3mm, Pitch 0.5mm, IPC Low Density)
pins: 1 ~{SHDN2} (in), 2 VIN2 (power), 3 VOUT2 (out), 4 PG (oc), 5 AGND (power), 6 VFB (in), 7 ~{SHDN1} (in), 8 VIN1 (power), 9 LX (out), 10 PGND (power)

## TC1303A-ZS0EUNTR
designator U?
500mA Synchronous Buck Regulator + 300mA LDO with Power-Good Output, Adjustable, 1.5V, 10-Pin MSOP, Industrial Temperature, Tape and Reel; Manufacturer: Microchip; PartNumber: TC1303A-ZS0EUNTR; DatasheetVersion: revB, Jul-2005; PackageVersion: revBB, Aug-2009; PackageReference: MSOP-UN10; PackageDescription: 10-Lead Plastic Micro Small Outline Package (UN) [MSOP]; Supplier 1: Digi-Key; Supplier Part Number 1: TC1303A-ZS0EUNTR-ND; Mounting Technology: Surface Mount; ComponentLink1Description: Manufacturer URL; ComponentLink1URL: http://www.microchip.com/; ComponentLink2Description: Datasheet; ComponentLink2URL: http://ww1.microchip.com/downloads/en/DeviceDoc/21949b.pdf; ComponentLink3Description: Package Specification; ComponentLink3URL: http://www.microchip.com/stellent/groups/techpub_sg/documents/packagingspec/en012702.pdf
footprint MSOP-UN10_N (TSSOP, 10-Leads, Body 3x3mm, Pitch 0.5mm, IPC Medium Density)
footprint MSOP-UN10_L (TSSOP, 10-Leads, Body 3x3mm, Pitch 0.5mm, IPC High Density)
footprint MSOP-UN10_M (TSSOP, 10-Leads, Body 3x3mm, Pitch 0.5mm, IPC Low Density)
pins: 1 ~{SHDN2} (in), 2 VIN2 (power), 3 VOUT2 (out), 4 PG (oc), 5 AGND (power), 6 VFB (in), 7 ~{SHDN1} (in), 8 VIN1 (power), 9 LX (out), 10 PGND (power)

## TC1303B-1H0EMF
designator U?
500mA Synchronous Buck Regulator + 300mA LDO with Power-Good Output, 1.375V, 2.6V, 10-Pin DFN, Industrial Temperature; Manufacturer: Microchip; PartNumber: TC1303B-1H0EMF; DatasheetVersion: revB, Jul-2005; PackageVersion: revBB, Aug-2009; PackageReference: DFN-MF10; PackageDescription: 10-Lead Plastic Dual Flat, No Lead Package (MF) - 3x3x0.9mm Body [DFN]; Supplier 1: Digi-Key; Supplier Part Number 1: TC1303B-1H0EMF-ND; Mounting Technology: Surface Mount; ComponentLink1Description: Manufacturer URL; ComponentLink1URL: http://www.microchip.com/; ComponentLink2Description: Datasheet; ComponentLink2URL: http://ww1.microchip.com/downloads/en/DeviceDoc/21949b.pdf; ComponentLink3Description: Package Specification; ComponentLink3URL: http://www.microchip.com/stellent/groups/techpub_sg/documents/packagingspec/en012702.pdf
footprint DFN-MF10 (SON, 10-Leads, Body 3x3mm, Pitch 0.5mm, Microchip Recommended)
pins: 1 ~{SHDN2} (in), 2 VIN2 (power), 3 VOUT2 (out), 4 PG (out), 5 AGND (power), 6 VOUT1 (out), 7 ~{SHDN1} (in), 8 VIN1 (power), 9 LX (out), 10 PGND (power), 11 EP (power)

## TC1303B-1H0EMFTR
designator U?
500mA Synchronous Buck Regulator + 300mA LDO with Power-Good Output, 1.375V, 2.6V, 10-Pin DFN, Industrial Temperature, Tape and Reel; Manufacturer: Microchip; PartNumber: TC1303B-1H0EMFTR; DatasheetVersion: revB, Jul-2005; PackageVersion: revBB, Aug-2009; PackageReference: DFN-MF10; PackageDescription: 10-Lead Plastic Dual Flat, No Lead Package (MF) - 3x3x0.9mm Body [DFN]; Supplier 1: Digi-Key; Supplier Part Number 1: TC1303B-1H0EMFTR-ND; Mounting Technology: Surface Mount; ComponentLink1Description: Manufacturer URL; ComponentLink1URL: http://www.microchip.com/; ComponentLink2Description: Datasheet; ComponentLink2URL: http://ww1.microchip.com/downloads/en/DeviceDoc/21949b.pdf; ComponentLink3Description: Package Specification; ComponentLink3URL: http://www.microchip.com/stellent/groups/techpub_sg/documents/packagingspec/en012702.pdf
footprint DFN-MF10 (SON, 10-Leads, Body 3x3mm, Pitch 0.5mm, Microchip Recommended)
pins: 1 ~{SHDN2} (in), 2 VIN2 (power), 3 VOUT2 (out), 4 PG (out), 5 AGND (power), 6 VOUT1 (out), 7 ~{SHDN1} (in), 8 VIN1 (power), 9 LX (out), 10 PGND (power), 11 EP (power)

## TC1303B-1P0EMF
designator U?
500mA Synchronous Buck Regulator + 300mA LDO with Power-Good Output, 1.375V, 1.8V, 10-Pin DFN, Industrial Temperature; Manufacturer: Microchip; PartNumber: TC1303B-1P0EMF; DatasheetVersion: revB, Jul-2005; PackageVersion: revBB, Aug-2009; PackageReference: DFN-MF10; PackageDescription: 10-Lead Plastic Dual Flat, No Lead Package (MF) - 3x3x0.9mm Body [DFN]; Supplier 1: Digi-Key; Supplier Part Number 1: TC1303B-1P0EMF-ND; Mounting Technology: Surface Mount; ComponentLink1Description: Manufacturer URL; ComponentLink1URL: http://www.microchip.com/; ComponentLink2Description: Datasheet; ComponentLink2URL: http://ww1.microchip.com/downloads/en/DeviceDoc/21949b.pdf; ComponentLink3Description: Package Specification; ComponentLink3URL: http://www.microchip.com/stellent/groups/techpub_sg/documents/packagingspec/en012702.pdf
footprint DFN-MF10 (SON, 10-Leads, Body 3x3mm, Pitch 0.5mm, Microchip Recommended)
pins: 1 ~{SHDN2} (in), 2 VIN2 (power), 3 VOUT2 (out), 4 PG (out), 5 AGND (power), 6 VOUT1 (out), 7 ~{SHDN1} (in), 8 VIN1 (power), 9 LX (out), 10 PGND (power), 11 EP (power)

## TC1303B-1P0EMFTR
designator U?
500mA Synchronous Buck Regulator + 300mA LDO with Power-Good Output, 1.375V, 1.8V, 10-Pin DFN, Industrial Temperature, Tape and Reel; Manufacturer: Microchip; PartNumber: TC1303B-1P0EMFTR; DatasheetVersion: revB, Jul-2005; PackageVersion: revBB, Aug-2009; PackageReference: DFN-MF10; PackageDescription: 10-Lead Plastic Dual Flat, No Lead Package (MF) - 3x3x0.9mm Body [DFN]; Supplier 1: Digi-Key; Supplier Part Number 1: TC1303B-1P0EMFTR-ND; Mounting Technology: Surface Mount; ComponentLink1Description: Manufacturer URL; ComponentLink1URL: http://www.microchip.com/; ComponentLink2Description: Datasheet; ComponentLink2URL: http://ww1.microchip.com/downloads/en/DeviceDoc/21949b.pdf; ComponentLink3Description: Package Specification; ComponentLink3URL: http://www.microchip.com/stellent/groups/techpub_sg/documents/packagingspec/en012702.pdf
footprint DFN-MF10 (SON, 10-Leads, Body 3x3mm, Pitch 0.5mm, Microchip Recommended)
pins: 1 ~{SHDN2} (in), 2 VIN2 (power), 3 VOUT2 (out), 4 PG (out), 5 AGND (power), 6 VOUT1 (out), 7 ~{SHDN1} (in), 8 VIN1 (power), 9 LX (out), 10 PGND (power), 11 EP (power)

## TC1303B-AD0EMF
designator U?
500mA Synchronous Buck Regulator + 300mA LDO with Power-Good Output, 3.3V, 3V, 10-Pin DFN, Industrial Temperature; Manufacturer: Microchip; PartNumber: TC1303B-AD0EMF; DatasheetVersion: revB, Jul-2005; PackageVersion: revBB, Aug-2009; PackageReference: DFN-MF10; PackageDescription: 10-Lead Plastic Dual Flat, No Lead Package (MF) - 3x3x0.9mm Body [DFN]; Supplier 1: Digi-Key; Supplier Part Number 1: TC1303B-AD0EMF-ND; Mounting Technology: Surface Mount; ComponentLink1Description: Manufacturer URL; ComponentLink1URL: http://www.microchip.com/; ComponentLink2Description: Datasheet; ComponentLink2URL: http://ww1.microchip.com/downloads/en/DeviceDoc/21949b.pdf; ComponentLink3Description: Package Specification; ComponentLink3URL: http://www.microchip.com/stellent/groups/techpub_sg/documents/packagingspec/en012702.pdf
footprint DFN-MF10 (SON, 10-Leads, Body 3x3mm, Pitch 0.5mm, Microchip Recommended)
pins: 1 ~{SHDN2} (in), 2 VIN2 (power), 3 VOUT2 (out), 4 PG (out), 5 AGND (power), 6 VOUT1 (out), 7 ~{SHDN1} (in), 8 VIN1 (power), 9 LX (out), 10 PGND (power), 11 EP (power)

## TC1303B-AD0EMFTR
designator U?
500mA Synchronous Buck Regulator + 300mA LDO with Power-Good Output, 3.3V, 3V, 10-Pin DFN, Industrial Temperature, Tape and Reel; Manufacturer: Microchip; PartNumber: TC1303B-AD0EMFTR; DatasheetVersion: revB, Jul-2005; PackageVersion: revBB, Aug-2009; PackageReference: DFN-MF10; PackageDescription: 10-Lead Plastic Dual Flat, No Lead Package (MF) - 3x3x0.9mm Body [DFN]; Supplier 1: Digi-Key; Supplier Part Number 1: TC1303B-AD0EMFTR-ND; Mounting Technology: Surface Mount; ComponentLink1Description: Manufacturer URL; ComponentLink1URL: http://www.microchip.com/; ComponentLink2Description: Datasheet; ComponentLink2URL: http://ww1.microchip.com/downloads/en/DeviceDoc/21949b.pdf; ComponentLink3Description: Package Specification; ComponentLink3URL: http://www.microchip.com/stellent/groups/techpub_sg/documents/packagingspec/en012702.pdf
footprint DFN-MF10 (SON, 10-Leads, Body 3x3mm, Pitch 0.5mm, Microchip Recommended)
pins: 1 ~{SHDN2} (in), 2 VIN2 (power), 3 VOUT2 (out), 4 PG (out), 5 AGND (power), 6 VOUT1 (out), 7 ~{SHDN1} (in), 8 VIN1 (power), 9 LX (out), 10 PGND (power), 11 EP (power)

## TC1303B-AG0EMF
designator U?
500mA Synchronous Buck Regulator + 300mA LDO with Power-Good Output, 3.3V, 2.7V, 10-Pin DFN, Industrial Temperature; Manufacturer: Microchip; PartNumber: TC1303B-AG0EMF; DatasheetVersion: revB, Jul-2005; PackageVersion: revBB, Aug-2009; PackageReference: DFN-MF10; PackageDescription: 10-Lead Plastic Dual Flat, No Lead Package (MF) - 3x3x0.9mm Body [DFN]; Supplier 1: Digi-Key; Supplier Part Number 1: TC1303B-AG0EMF-ND; Mounting Technology: Surface Mount; ComponentLink1Description: Manufacturer URL; ComponentLink1URL: http://www.microchip.com/; ComponentLink2Description: Datasheet; ComponentLink2URL: http://ww1.microchip.com/downloads/en/DeviceDoc/21949b.pdf; ComponentLink3Description: Package Specification; ComponentLink3URL: http://www.microchip.com/stellent/groups/techpub_sg/documents/packagingspec/en012702.pdf
footprint DFN-MF10 (SON, 10-Leads, Body 3x3mm, Pitch 0.5mm, Microchip Recommended)
pins: 1 ~{SHDN2} (in), 2 VIN2 (power), 3 VOUT2 (out), 4 PG (out), 5 AGND (power), 6 VOUT1 (out), 7 ~{SHDN1} (in), 8 VIN1 (power), 9 LX (out), 10 PGND (power), 11 EP (power)

## TC1303B-AG0EMFTR
designator U?
500mA Synchronous Buck Regulator + 300mA LDO with Power-Good Output, 3.3V, 2.7V, 10-Pin DFN, Industrial Temperature, Tape and Reel; Manufacturer: Microchip; PartNumber: TC1303B-AG0EMFTR; DatasheetVersion: revB, Jul-2005; PackageVersion: revBB, Aug-2009; PackageReference: DFN-MF10; PackageDescription: 10-Lead Plastic Dual Flat, No Lead Package (MF) - 3x3x0.9mm Body [DFN]; Supplier 1: Digi-Key; Supplier Part Number 1: TC1303B-AG0EMFTR-ND; Mounting Technology: Surface Mount; ComponentLink1Description: Manufacturer URL; ComponentLink1URL: http://www.microchip.com/; ComponentLink2Description: Datasheet; ComponentLink2URL: http://ww1.microchip.com/downloads/en/DeviceDoc/21949b.pdf; ComponentLink3Description: Package Specification; ComponentLink3URL: http://www.microchip.com/stellent/groups/techpub_sg/documents/packagingspec/en012702.pdf
footprint DFN-MF10 (SON, 10-Leads, Body 3x3mm, Pitch 0.5mm, Microchip Recommended)
pins: 1 ~{SHDN2} (in), 2 VIN2 (power), 3 VOUT2 (out), 4 PG (out), 5 AGND (power), 6 VOUT1 (out), 7 ~{SHDN1} (in), 8 VIN1 (power), 9 LX (out), 10 PGND (power), 11 EP (power)

## TC1303B-AG0EUN
designator U?
500mA Synchronous Buck Regulator + 300mA LDO with Power-Good Output, 3.3V, 2.7V, 10-Pin MSOP, Industrial Temperature; Manufacturer: Microchip; PartNumber: TC1303B-AG0EUN; DatasheetVersion: revB, Jul-2005; PackageVersion: revBB, Aug-2009; PackageReference: MSOP-UN10; PackageDescription: 10-Lead Plastic Micro Small Outline Package (UN) [MSOP]; Supplier 1: Digi-Key; Supplier Part Number 1: TC1303B-AG0EUN-ND; Mounting Technology: Surface Mount; ComponentLink1Description: Manufacturer URL; ComponentLink1URL: http://www.microchip.com/; ComponentLink2Description: Datasheet; ComponentLink2URL: http://ww1.microchip.com/downloads/en/DeviceDoc/21949b.pdf; ComponentLink3Description: Package Specification; ComponentLink3URL: http://www.microchip.com/stellent/groups/techpub_sg/documents/packagingspec/en012702.pdf
footprint MSOP-UN10_N (TSSOP, 10-Leads, Body 3x3mm, Pitch 0.5mm, IPC Medium Density)
footprint MSOP-UN10_L (TSSOP, 10-Leads, Body 3x3mm, Pitch 0.5mm, IPC High Density)
footprint MSOP-UN10_M (TSSOP, 10-Leads, Body 3x3mm, Pitch 0.5mm, IPC Low Density)
pins: 1 ~{SHDN2} (in), 2 VIN2 (power), 3 VOUT2 (out), 4 PG (out), 5 AGND (power), 6 VOUT1 (out), 7 ~{SHDN1} (in), 8 VIN1 (power), 9 LX (out), 10 PGND (power)

## TC1303B-AG0EUNTR
designator U?
500mA Synchronous Buck Regulator + 300mA LDO with Power-Good Output, 3.3V, 2.7V, 10-Pin MSOP, Industrial Temperature, Tape and Reel; Manufacturer: Microchip; PartNumber: TC1303B-AG0EUNTR; DatasheetVersion: revB, Jul-2005; PackageVersion: revBB, Aug-2009; PackageReference: MSOP-UN10; PackageDescription: 10-Lead Plastic Micro Small Outline Package (UN) [MSOP]; Supplier 1: Digi-Key; Supplier Part Number 1: TC1303B-AG0EUNTR-ND; Mounting Technology: Surface Mount; ComponentLink1Description: Manufacturer URL; ComponentLink1URL: http://www.microchip.com/; ComponentLink2Description: Datasheet; ComponentLink2URL: http://ww1.microchip.com/downloads/en/DeviceDoc/21949b.pdf; ComponentLink3Description: Package Specification; ComponentLink3URL: http://www.microchip.com/stellent/groups/techpub_sg/documents/packagingspec/en012702.pdf
footprint MSOP-UN10_N (TSSOP, 10-Leads, Body 3x3mm, Pitch 0.5mm, IPC Medium Density)
footprint MSOP-UN10_L (TSSOP, 10-Leads, Body 3x3mm, Pitch 0.5mm, IPC High Density)
footprint MSOP-UN10_M (TSSOP, 10-Leads, Body 3x3mm, Pitch 0.5mm, IPC Low Density)
pins: 1 ~{SHDN2} (in), 2 VIN2 (power), 3 VOUT2 (out), 4 PG (out), 5 AGND (power), 6 VOUT1 (out), 7 ~{SHDN1} (in), 8 VIN1 (power), 9 LX (out), 10 PGND (power)